# Altium footprint library Darkside_Lib.PcbLib: 49 footprints (part 1 of 4)
Each footprint in its own frame and in the unit in brackets; x right, y up, seen from the top. Pads: shape width x height; smd on the part's side, far side on the other; paste and mask are expansions set on the pad; w line width, h text height; cw(c..) or ccw(c..) is an arc to the next point about the centre after c.
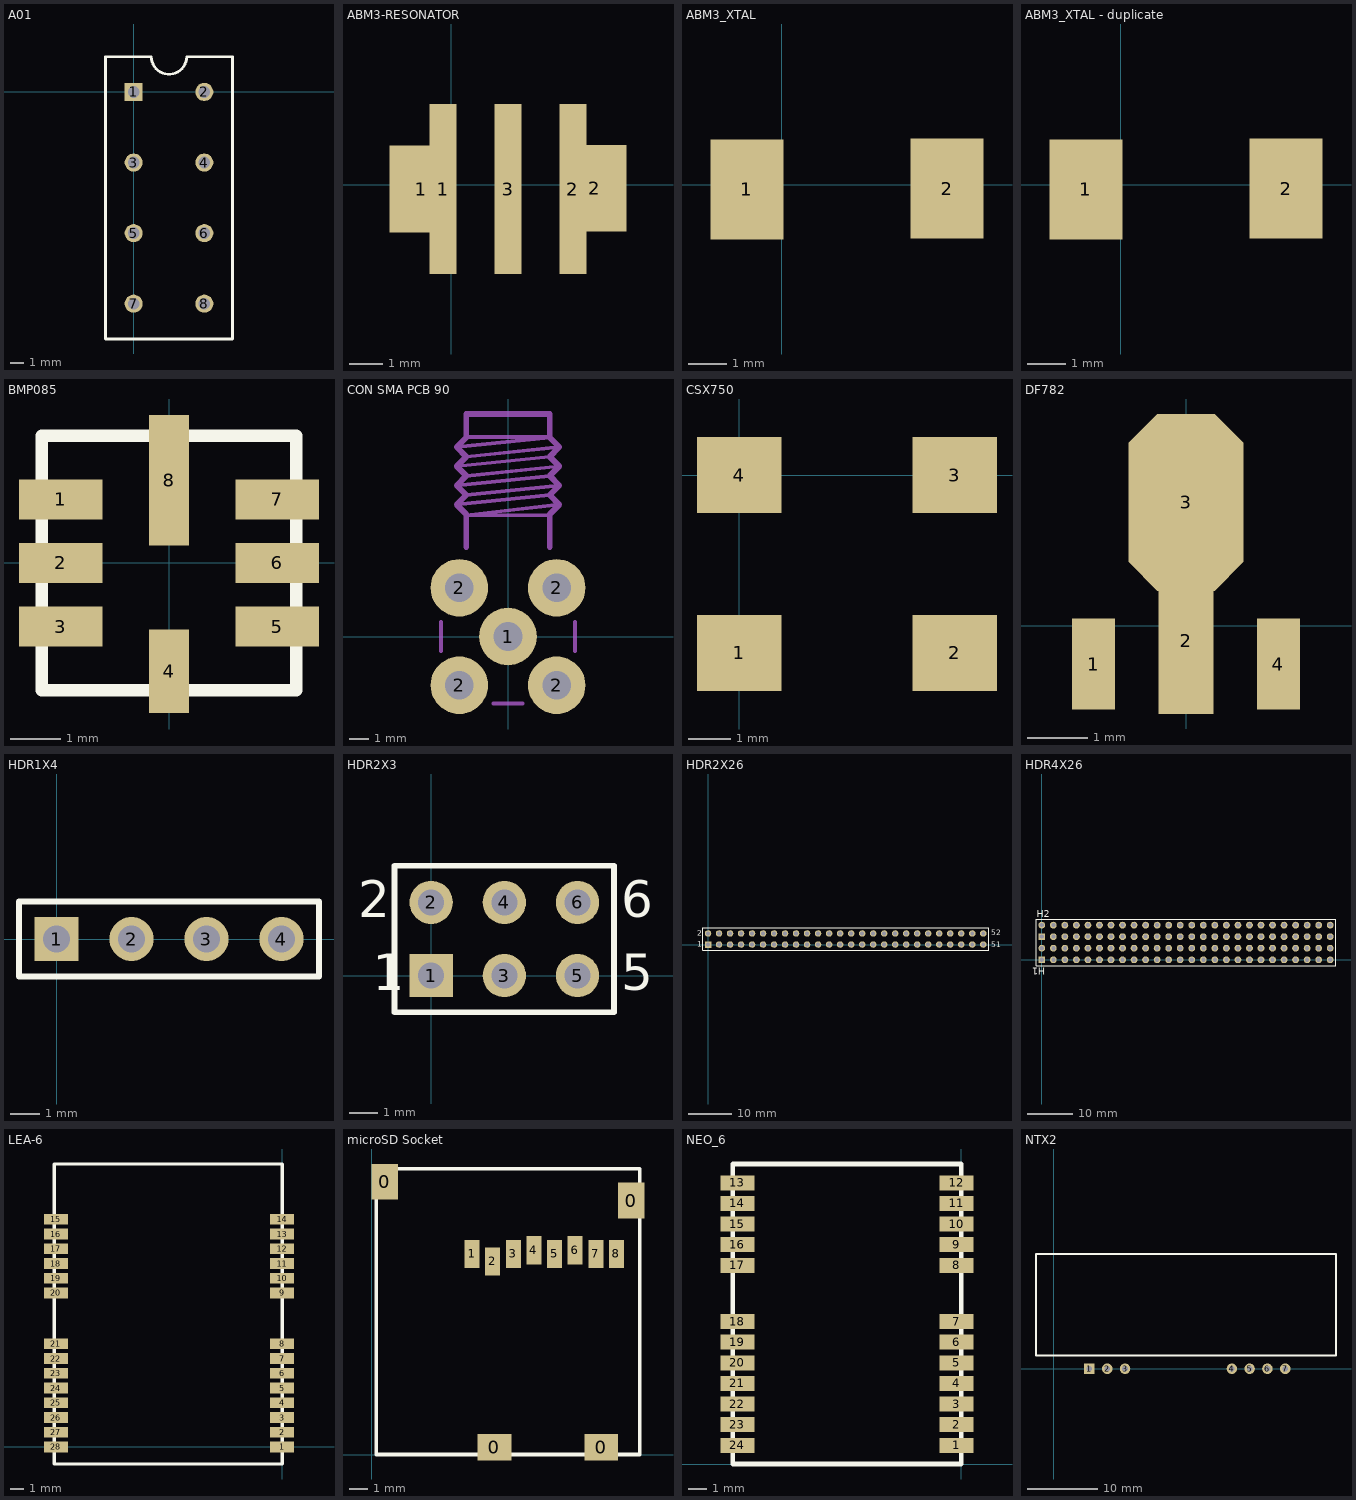
[diagram p0: the footprints below, top view; thin cyan lines are the x and y axes]

## A01 [mm]
pads (8):
  rect 1.3x1.3 hole 0.85: 1(0,0)
  round 1.3 hole 0.85: 2(5.08,0) 3(0,-5.08) 4(5.08,-5.08) 5(0,-10.16) 6(5.08,-10.16) 7(0,-15.24) 8(5.08,-15.24)
Top Overlay:
  lines w0.2: -2.032,-17.78 7.112,-17.78 7.112,2.54 3.81,2.54 cw(c2.54,2.54) 1.27,2.54 -2.032,2.54 -2.032,-17.78

## ABM3-RESONATOR [mm]
height 1.3
pads (5):
  rect 1.9x2.6 smd: 1(-0.9,-0.125) 2(4.3,-0.1)
  rect 0.8x5.1 smd: 1(-0.25,-0.125) 2(3.65,-0.125) 3(1.7,-0.125)
3D body: height 1.34, standoff -0.06, extent -1.4,-1.95 4.8,1.75

## ABM3_XTAL [mm]
height 1.3
pads (2):
  rect 1.9x2.6 smd: 1(-0.9,-0.125) 2(4.3,-0.1)
3D body: height 1.34, standoff -0.06, extent -1.4,-1.95 4.8,1.75

## ABM3_XTAL - duplicate [mm]
height 1.3
pads (2):
  rect 1.9x2.6 smd: 1(-0.9,-0.125) 2(4.3,-0.1)
3D body: height 1.34, standoff -0.06, extent -1.4,-1.95 4.8,1.75

## BMP085 [mm]
height 1.2
pads (8):
  rect 1.67x0.8 smd: 1(-2.159,1.27) 2(-2.159,0) 3(-2.159,-1.27) 5(2.159,-1.27) 6(2.159,0) 7(2.159,1.27)
  rect 0.8x1.67 smd: 4(0,-2.159)
  rect 0.8x2.6 smd: 8(0,1.651)
Top Overlay:
  lines w0.254: -2.54,-2.54 2.54,-2.54 2.54,2.54 -2.54,2.54 -2.54,-2.54

## CON SMA PCB 90 [mm] "UofA Lib Pavel"
pads (5):
  round 3 hole 1.5: 1(0,0) 2(-2.54,-2.54) 2(-2.54,2.54) 2(2.54,-2.54) 2(2.54,2.54)
Mechanical 14:
  lines w0.2: -3.5,-0.75 -3.5,0.75 ; -2.675,6.875 2.175,7.375 ; -2.675,7.875 2.175,8.375 ; -2.675,8.875 2.175,9.375 ; -2.675,9.875 2.175,10.375 ; -2.175,7.375 2.675,7.875 ; -2.175,8.375 2.675,8.875 ; -2.175,9.375 2.675,9.875 ; -2.15,10.4 2.175,10.4 ; -0.75,-3.5 0.75,-3.5 ; 2.175,6.325 -2.175,6.325 2.675,6.875 ; 3.5,-0.75 3.5,0.75
  lines w0.305: -2.175,4.675 -2.175,6.375 -2.675,6.875 ; 2.175,4.675 2.175,6.375 2.675,6.875 ; -2.675,6.875 -2.175,7.375 -2.675,7.875 ; -2.675,6.875 -2.675,6.875 ; -2.675,7.875 -2.175,8.375 ; -2.675,7.875 -2.675,7.875 ; -2.175,8.375 -2.675,8.875 -2.175,9.375 -2.675,9.875 -2.175,10.375 -2.175,11.6 2.175,11.6 2.175,10.375 2.675,9.875 ; -2.175,8.375 -2.175,8.375 ; 2.175,7.375 2.675,7.875 2.175,8.375 ; 2.175,7.375 2.175,7.375 ; 2.175,7.375 2.675,6.875 ; 2.175,8.375 2.675,8.875 2.175,9.375 ; 2.175,8.375 2.175,8.375 ; 2.175,9.375 2.675,9.875 ; 2.175,9.375 2.175,9.375 ; 2.675,6.875 2.675,6.875 ; 2.675,9.875 2.675,9.875

## CSX750 [mm]
pads (4):
  rect 2x1.8 smd: 1(0,-4.2) 2(5.08,-4.2) 3(5.08,0) 4(0,0)

## DF782 [mil]
pads (4):
  rect 28x59 smd: 1(-60,-25) 4(60,-25)
  rect 36x95 smd: 2(0,-10)
  oct 75x115 smd: 3(0,80)

## HDR1X4 [mm] "Connector; Header; 4 Position"
pads (4):
  rect 1.5x1.5 hole 0.9: 1(0,0)
  round 1.5 hole 0.9: 2(2.54,0) 3(5.08,0) 4(7.62,0)
Top Overlay:
  lines w0.2: -1.27,-1.27 -1.27,1.27 8.89,1.27 8.89,-1.27 -1.27,-1.27
3D body: height 10.78, standoff -3.44, extent -1.255,-3.1 8.905,3.25

## HDR2X3 [mm] "Connector; Header; 3x2 Position"
pads (6):
  rect 1.5x1.5 hole 0.9: 1(0,0)
  round 1.5 hole 0.9: 2(0,2.54) 3(2.54,0) 4(2.54,2.54) 5(5.08,0) 6(5.08,2.54)
Top Overlay:
  lines w0.2: 1.482,-1.27 6.35,-1.27 ; 6.35,-1.27 -1.27,-1.27 -1.27,3.81 6.35,3.81 6.35,-1.27
  text "1" at -2.032,-0.508 h1.27
  text "2" at -2.54,2.032 h1.27
  text "5" at 6.604,-0.508 h1.27
  text "6" at 6.604,2.032 h1.27
3D body: height 8.5, standoff -3, extent -1.235,-1.24 6.385,3.84

## HDR2X26 [mm] "Connector; Header; 25x2 Position"
pads (52):
  rect 1.5x1.5 hole 0.9: 1(0,0)
  round 1.5 hole 0.9: 2(0,2.54) 3(2.54,0) 4(2.54,2.54) 5(5.08,0) 6(5.08,2.54) 7(7.62,0) 8(7.62,2.54) 9(10.16,0) 10(10.16,2.54) 11(12.7,0) 12(12.7,2.54) 13(15.24,0) 14(15.24,2.54) 15(17.78,0) 16(17.78,2.54) 17(20.32,0) 18(20.32,2.54) 19(22.86,0) 20(22.86,2.54) 21(25.4,0) 22(25.4,2.54) 23(27.94,0) 24(27.94,2.54) 25(30.48,0) 26(30.48,2.54) 27(33.02,0) 28(33.02,2.54) 29(35.56,0) 30(35.56,2.54) 31(38.1,0) 32(38.1,2.54) 33(40.64,0) 34(40.64,2.54) 35(43.18,0) 36(43.18,2.54) 37(45.72,0) 38(45.72,2.54) 39(48.26,0) 40(48.26,2.54) 41(50.8,0) 42(50.8,2.54) 43(53.34,0) 44(53.34,2.54) 45(55.88,0) 46(55.88,2.54) 47(58.42,0) 48(58.42,2.54) 49(60.96,0) 50(60.96,2.54) 51(63.5,0) 52(63.5,2.54)
Top Overlay:
  lines w0.2: -1.27,-1.27 -1.27,3.81 64.77,3.81 64.77,2.54 64.77,0 64.77,-1.27 -1.27,-1.27
  text "2" at -2.54,2.032 h1.27
  text "1" at -2.54,-0.508 h1.27
  text "51" at 65.405,-0.635 h1.27
  text "52" at 65.405,2.159 h1.27
3D body: height 8.51, standoff -14.73, extent -1.524,-1.27 65.024,3.81

## HDR4X26 [mm] "Connector; Header; 25x2 Position"
pads (104):
  rect 1.5x1.5 hole 0.9: 1(0,0) 2_1(0,5.08)
  round 1.5 hole 0.9: 2(0,2.54) 2_2(0,7.62) 2_3(2.54,5.08) 2_4(2.54,7.62) 2_5(5.08,5.08) 2_6(5.08,7.62) 2_7(7.62,5.08) 2_8(7.62,7.62) 2_9(10.16,5.08) 2_10(10.16,7.62) 2_11(12.7,5.08) 2_12(12.7,7.62) 2_13(15.24,5.08) 2_14(15.24,7.62) 2_15(17.78,5.08) 2_16(17.78,7.62) 2_17(20.32,5.08) 2_18(20.32,7.62) 2_19(22.86,5.08) 2_20(22.86,7.62) 2_21(25.4,5.08) 2_22(25.4,7.62) 2_23(27.94,5.08) 2_24(27.94,7.62) 2_25(30.48,5.08) 2_26(30.48,7.62) 2_27(33.02,5.08) 2_28(33.02,7.62) 2_29(35.56,5.08) 2_30(35.56,7.62) 2_31(38.1,5.08) 2_32(38.1,7.62) 2_33(40.64,5.08) 2_34(40.64,7.62) 2_35(43.18,5.08) 2_36(43.18,7.62) 2_37(45.72,5.08) 2_38(45.72,7.62) 2_39(48.26,5.08) 2_40(48.26,7.62) 2_41(50.8,5.08) 2_42(50.8,7.62) 2_43(53.34,5.08) 2_44(53.34,7.62) 2_45(55.88,5.08) 2_46(55.88,7.62) 2_47(58.42,5.08) 2_48(58.42,7.62) 2_49(60.96,5.08) 2_50(60.96,7.62) 2_51(63.5,5.08) 2_52(63.5,7.62) 3(2.54,0) 4(2.54,2.54) 5(5.08,0) 6(5.08,2.54) 7(7.62,0) 8(7.62,2.54) 9(10.16,0) 10(10.16,2.54) 11(12.7,0) 12(12.7,2.54) 13(15.24,0) 14(15.24,2.54) 15(17.78,0) 16(17.78,2.54) 17(20.32,0) 18(20.32,2.54) 19(22.86,0) 20(22.86,2.54) 21(25.4,0) 22(25.4,2.54) 23(27.94,0) 24(27.94,2.54) 25(30.48,0) 26(30.48,2.54) 27(33.02,0) 28(33.02,2.54) 29(35.56,0) 30(35.56,2.54) 31(38.1,0) 32(38.1,2.54) 33(40.64,0) 34(40.64,2.54) 35(43.18,0) 36(43.18,2.54) 37(45.72,0) 38(45.72,2.54) 39(48.26,0) 40(48.26,2.54) 41(50.8,0) 42(50.8,2.54) 43(53.34,0) 44(53.34,2.54) 45(55.88,0) 46(55.88,2.54) 47(58.42,0) 48(58.42,2.54) 49(60.96,0) 50(60.96,2.54) 51(63.5,0) 52(63.5,2.54)
Top Overlay:
  lines w0.2: -1.27,3.556 -1.27,8.89 64.77,8.89 64.77,3.556 ; -1.27,3.81 -1.27,-1.27 64.77,-1.27 64.77,0 64.77,2.54 64.77,3.81
  text "H2" at -1.143,9.398 h1.52
  text "H1" at 0.762,-1.778 h1.52
3D body: height 11.05, standoff -12.19, extent -1.524,-1.27 65.024,3.81
3D body: height 11.05, standoff -12.19, extent -1.524,3.81 65.024,8.89

## LEA-6 [mm]
pads (28):
  rect 1.8x0.8 smd: 1(0,0) 2(0,1.1) 3(0,2.2) 4(0,3.3) 5(0,4.4) 6(0,5.5) 7(0,6.6) 8(0,7.7) 9(0,11.5) 10(0,12.6) 11(0,13.7) 12(0,14.8) 13(0,15.9) 14(0,17) 15(-16.891,17) 16(-16.891,15.9) 17(-16.891,14.8) 18(-16.891,13.7) 19(-16.891,12.6) 20(-16.891,11.5) 21(-16.891,7.7) 22(-16.891,6.6) 23(-16.891,5.5) 24(-16.891,4.4) 25(-16.891,3.3) 26(-16.891,2.2) 27(-16.891,1.1) 28(-16.891,0)
Top Overlay:
  lines w0.254: -17,-1.27 -17,21.13 0,21.13 0,-1.27 -17,-1.27

## microSD Socket [mm]
pads (12):
  rect 1.4x1.9 smd: 0(0.7,14.55) 0(13.85,13.55)
  rect 1.8x1.4 smd: 0(6.55,0.4) 0(12.25,0.4)
  rect 0.8x1.5 smd: 1(5.36,10.7) 2(6.46,10.3) 3(7.56,10.7) 4(8.66,10.9) 5(9.76,10.7) 6(10.86,10.9) 7(11.96,10.7) 8(13.06,10.7)
Top Overlay:
  lines w0.203: 0.25,0 0.25,15.25 14.3,15.25 14.3,0 0.25,0

## NEO_6 [mm]
pads (24):
  rect 1.8x0.8 smd: 1(-0.254,1) 2(-0.254,2.1) 3(-0.254,3.2) 4(-0.254,4.3) 5(-0.254,5.4) 6(-0.254,6.5) 7(-0.254,7.6) 8(-0.254,10.6) 9(-0.254,11.7) 10(-0.254,12.8) 11(-0.254,13.9) 12(-0.254,15) 13(-11.938,15) 14(-11.938,13.9) 15(-11.938,12.8) 16(-11.938,11.7) 17(-11.938,10.6) 18(-11.938,7.6) 19(-11.938,6.5) 20(-11.938,5.4) 21(-11.938,4.3) 22(-11.938,3.2) 23(-11.938,2.1) 24(-11.938,1)
Top Overlay:
  lines w0.254: -12.192,0 -12.192,16.002 0,16.002 0,0 -12.192,0

## NTX2 [mm]
pads (7):
  rect 1.5x1.5 hole 0.8: 1(5.08,0)
  round 1.5 hole 0.8: 2(7.62,0) 3(10.16,0) 4(25.4,0) 5(27.94,0) 6(30.48,0) 7(33.02,0)
Top Overlay:
  lines w0.254: -2.54,1.905 39.878,1.905 40.259,1.905 40.259,2.286 40.259,16.383 -2.54,16.383 -2.54,1.905